# EAGLE library part AS-ITM-00120 (library tinycircuits)
RES ARRAY 49.9 OHM 4 RES 0804
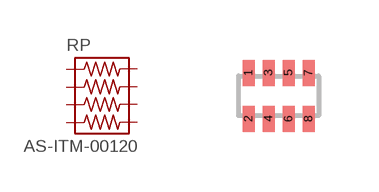
[diagram p49: symbol with the pads of 0402RPACK; footprint 0402RPACK]

Designator prefix RP

## AS-ITM-00120 (PARTNO: AS-ITM-00120; VALUE: 49.9)  [0402RPACK]
1  1  pas
2  2  pas
3  3  pas
4  4  pas
5  5  pas
6  6  pas
7  7  pas
8  8  pas

## Footprint 0402RPACK (pad centres in mm)
smd 0.3 x 0.65: 1 -0.75,0.575; 2 -0.75,-0.575; 3 -0.25,0.575; 4 -0.25,-0.575; 5 0.25,0.575; 6 0.25,-0.575; 7 0.75,0.575; 8 0.75,-0.575